# Altium footprint library Custom.PcbLib: 446 footprints (part 13 of 28)
Each footprint in its own frame and in the unit in brackets; x right, y up, seen from the top. Pads: shape width x height; smd on the part's side, far side on the other; paste and mask are expansions set on the pad; w line width, h text height; cw(c..) or ccw(c..) is an arc to the next point about the centre after c.
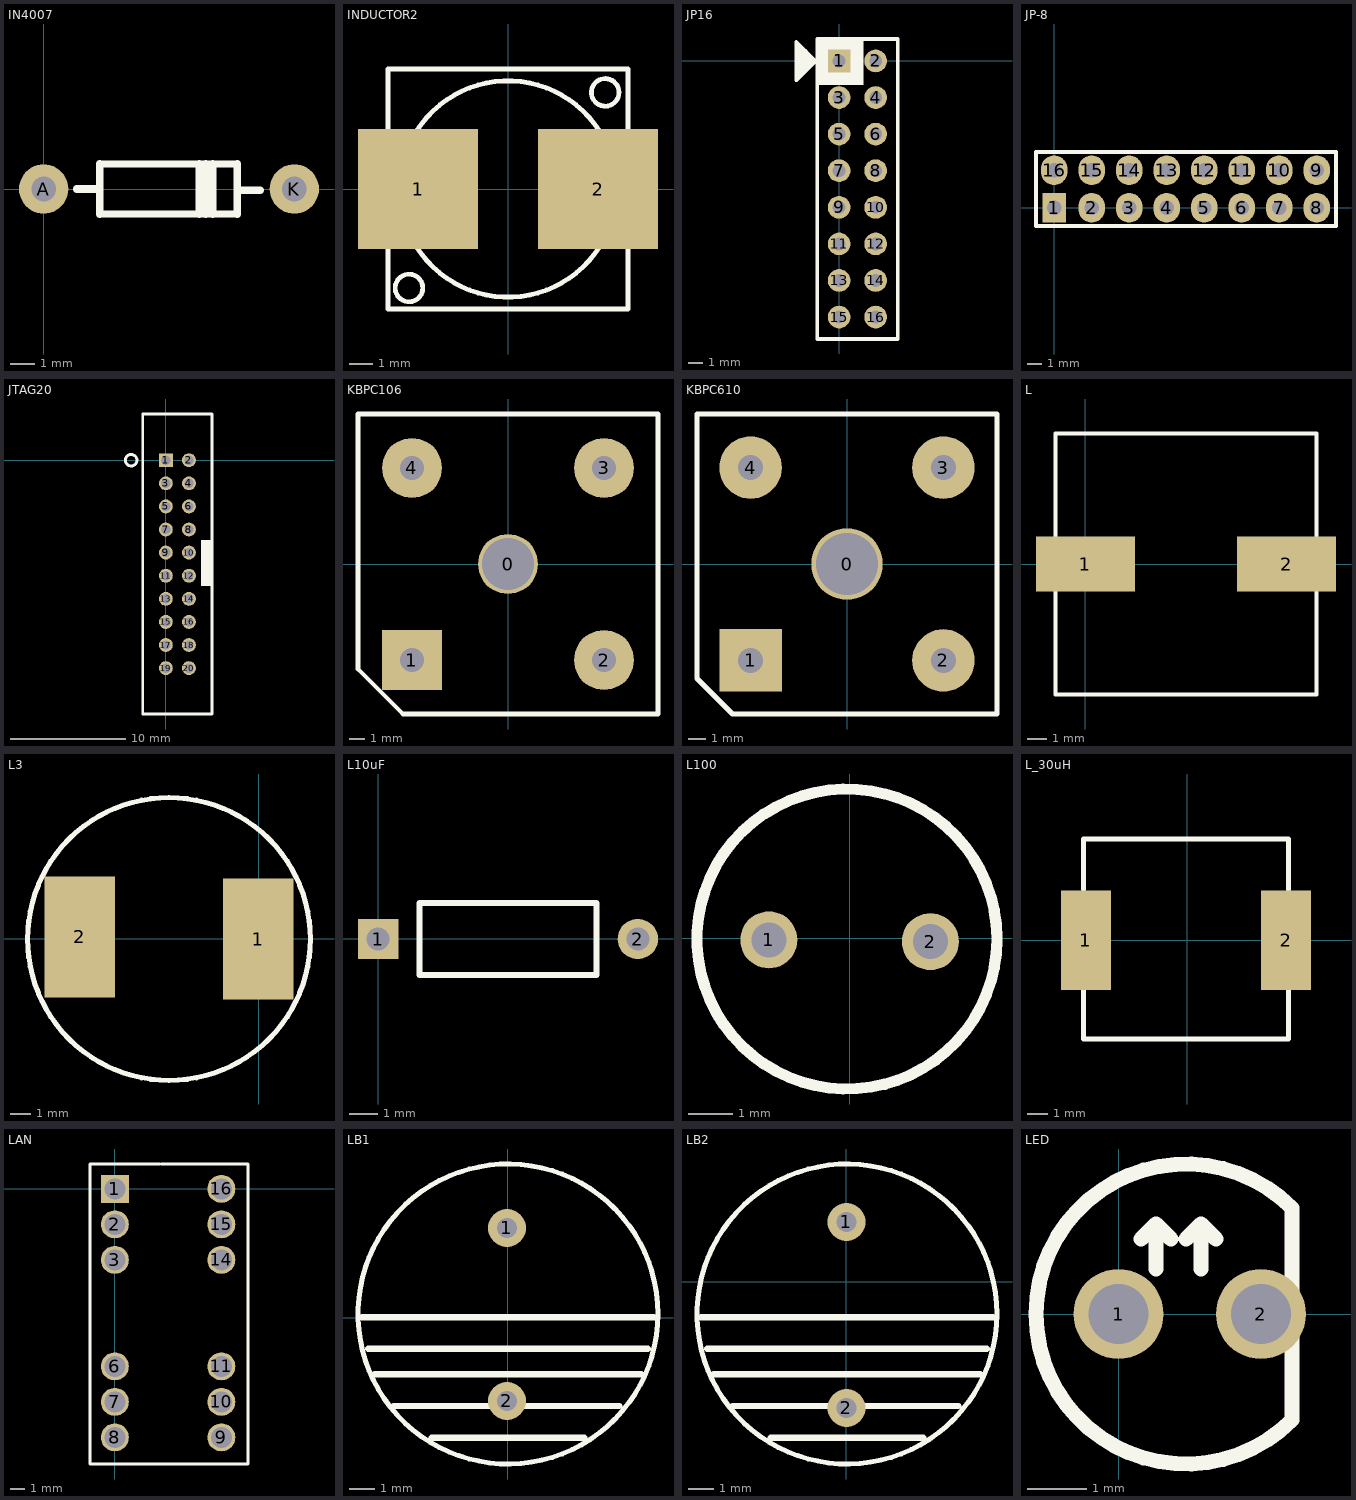
[diagram p12: the footprints below, top view; thin cyan lines are the x and y axes]

## IN4007 [mm]
pads (2):
  round 2 hole 1: A(0,0) K(10.16,0)
Top Overlay:
  lines w0.305: 1.35,0 2.282,0 ; 2.282,-1.016 2.282,1.016 ; 2.289,-1.007 7.841,-1.014 ; 2.289,1.007 7.841,1.014 ; 6.3,-1.016 6.3,1.016 ; 6.575,-1.016 6.575,1.016 ; 6.85,-1.016 6.85,1.016 ; 7.853,-1.016 7.853,1.016 ; 7.853,-0.05 8.785,-0.05

## INDUCTOR2 [mm]
pads (2):
  rect 5.08x5.08 smd: 1(-3.81,0) 2(3.81,0)
Top Overlay:
  circle w0.203: c4.115,4.089 r0.584
  circle w0.203: c-4.191,-4.191 r0.584
  circle w0.203: c0,0 r4.579
  lines w0.203: -5.08,-5.08 -5.08,5.08 5.08,5.08 5.08,-5.08 -5.08,-5.08

## JP16 [mil]
pads (16):
  rect 62x62 hole 35: 1(0,0)
  round 62 hole 35: 2(100,0) 3(0,-100) 4(100,-100) 5(0,-200) 6(100,-200) 7(0,-300) 8(100,-300) 9(0,-400) 10(100,-400) 11(0,-500) 12(100,-500) 13(0,-600) 14(100,-600) 15(0,-700) 16(100,-700)
Top Overlay:
  region: -60,-64.57 65.35,-64.57 65.35,60 -60,60
  lines w10: -116.93,-20.47 -116.93,-52.76 -116.54,-53.15 -116.54,-52.76 -63.94,-0.16 -63.94,0 -63.94,-1.18 -63.94,-1.02 -116.93,51.97 -116.93,-35.83 -109.57,-39.25 -109.57,44.61 ; -100.86,35.9 -100.86,-33 -100.79,-33.07 ; -92.52,-25.59 -92.03,-25.1 -92.03,27.07 ; -83.43,-12.96 -83.43,18.47 ; -76.1,-6.02 -76.1,11.13 ; -60,-50 50,-50 50,60 ; -60,-760 160,-760 160,-660 160,60 0,60 -60,60 -60,-660 -60,-760

## JP-8 [mm]
pads (16):
  rect 1.6x2 hole 1: 1(0,0)
  oval 1.8x2 hole 1: 2(2.54,0) 3(5.08,0) 4(7.62,0) 5(10.16,0) 6(12.7,0) 7(15.24,0) 8(17.78,0) 9(17.78,2.54) 10(15.24,2.54) 11(12.7,2.54) 12(10.16,2.54) 13(7.62,2.54) 14(5.08,2.54) 15(2.54,2.54) 16(0,2.54)
Top Overlay:
  lines w0.254: -1.23,-1.23 -1.23,3.77 19.09,3.77 19.09,-1.23 -1.23,-1.23

## JTAG20 [mm]
pads (20):
  rect 1.2x1.2 hole 0.8: 1(0,0)
  round 1.2 hole 0.8: 2(2,0) 3(0,-2) 4(2,-2) 5(0,-4) 6(2,-4) 7(0,-6) 8(2,-6) 9(0,-8) 10(2,-8) 11(0,-10) 12(2,-10) 13(0,-12) 14(2,-12) 15(0,-14) 16(2,-14) 17(0,-16) 18(2,-16) 19(0,-18) 20(2,-18)
Top Overlay:
  circle w0.254: c-3,0 r0.5
  rectangle: 3.048,-10.89 4.048,-8.89
  rectangle: 3.048,-8.893 4.048,-6.893
  lines w0.254: -2,-21.971 4,-21.971 4,4 3,4 -1,4 -2,4 -2,-21.971

## KBPC106 [mm]
pads (5):
  round 4 hole 3.5: 0(0,0)
  rect 4x4 hole 1.6: 1(-6.4,-6.4)
  round 4 hole 1.6: 2(6.4,-6.4) 3(6.4,6.4) 4(-6.4,6.4)
Top Overlay:
  lines w0.305: -10,-7 -10,10 10,10 10,-10 -7,-10 -10,-7

## KBPC610 [mm]
pads (5):
  round 4 hole 3.5: 0(0,0)
  rect 3.5x3.5 hole 1.4: 1(-5.4,-5.4)
  round 3.5 hole 1.4: 2(5.4,-5.4) 3(5.4,5.4) 4(-5.4,5.4)
Top Overlay:
  lines w0.305: -8.4,-6.4 -8.4,8.4 8.4,8.4 8.4,-8.4 -6.4,-8.4 -8.4,-6.4

## L [mm]
pads (2):
  rect 5x2.8 smd: 1(0,0) 2(10.16,0)
Top Overlay:
  lines w0.203: -1.524,-6.604 -1.524,0 -1.524,6.604 11.684,6.604 11.684,-6.604 -1.524,-6.604

## L3 [mm]
pads (2):
  rect 3.5x6 smd: 1(-0.017,-0.009) 2(-8.867,0.091)
Top Overlay:
  circle w0.254: c-4.442,-0.009 r7

## L10uF [mm]
pads (2):
  rect 1.4x1.4 hole 0.8: 1(0,0)
  round 1.4 hole 0.8: 2(9,0)
Top Overlay:
  lines w0.2: 1.435,-1.25 7.565,-1.25 7.565,1.25 3.875,1.25 1.435,1.25 1.435,-1.25

## L100 [mm]
pads (2):
  round 1.3 hole 0.8: 1(-1.84,-0.04) 2(1.84,-0.08)
Top Overlay:
  lines w0.254: 3.357,-0.041 cw(c-0.06,-0.02) 3.357,0

## L_30uH [mm]
pads (2):
  rect 2.5x5 smd: 1(-5.08,0) 2(4.953,0)
Top Overlay:
  lines w0.254: -5.207,-2.54 -5.207,-4.953 5.08,-4.953 5.08,-2.54 ; -5.207,2.54 -5.207,5.08 5.08,5.08 5.08,2.54

## LAN [mm]
pads (12):
  rect 2x2 hole 1.5: 1(0,0)
  round 2 hole 1.5: 2(0,-2.54) 3(0,-5.08) 6(0,-12.7) 7(0,-15.24) 8(0,-17.78) 9(7.62,-17.78) 10(7.62,-15.24) 11(7.62,-12.7) 14(7.62,-5.08) 15(7.62,-2.54) 16(7.62,0)
Top Overlay:
  lines w0.2: 3.175,1.778 -1.778,1.778 -1.778,-19.685 9.525,-19.685 9.525,1.778 3.302,1.778

## LB1 [mm]
pads (2):
  round 1.524 hole 0.8: 1(-0.04,3.6) 2(-0.04,-3.32)
Top Overlay:
  circle w0.2: c0.001,0.159 r6
  lines w0.254: -5.841,0.032 5.843,0.032 ; -5.587,-1.238 5.589,-1.238 ; -5.333,-2.254 5.335,-2.254 ; -4.571,-3.524 4.446,-3.524 ; -3.047,-4.794 3.049,-4.794

## LB2 [mm]
pads (2):
  round 1.524 hole 0.8: 1(0,2.4) 2(0,-5.04)
Top Overlay:
  circle w0.2: c0.021,-1.281 r6
  lines w0.254: -5.821,-1.408 5.863,-1.408 ; -5.567,-2.678 5.609,-2.678 ; -5.313,-3.694 5.355,-3.694 ; -4.551,-4.964 4.466,-4.964 ; -3.027,-6.234 3.069,-6.234

## LED [mil]
pads (2):
  round 60 hole 40: 1(0,0) 2(95,0)
Top Overlay:
  lines w10: 15,50 25,60 ; 25,30 25,60 ; 35,50 25,60 ; 45,50 55,60 ; 55,30 55,60 ; 65,50 55,60 ; 115.71,-70.71 cw(c45,0) 115.71,70.71 115.71,-70.71